# EAGLE library part EEPROM-I2C (library DSPR)
I2C EEPROMs 24C32 Series 32 kb I2C 2 Wire (4 k x 8 Bit) 3.3 V Serial EEPROM SMD - SOIC-8 24LC256 Series 256 kb I2C 2 Wire (32 k x 8 Bit) 2.5 V Serial EEPROM SMD - SOIC-8 Datasheet SparkFun Products SparkFun UDB5 - PIC UAV Development Board <https://www.sparkfun.com/products/11703> (GPS-11703)
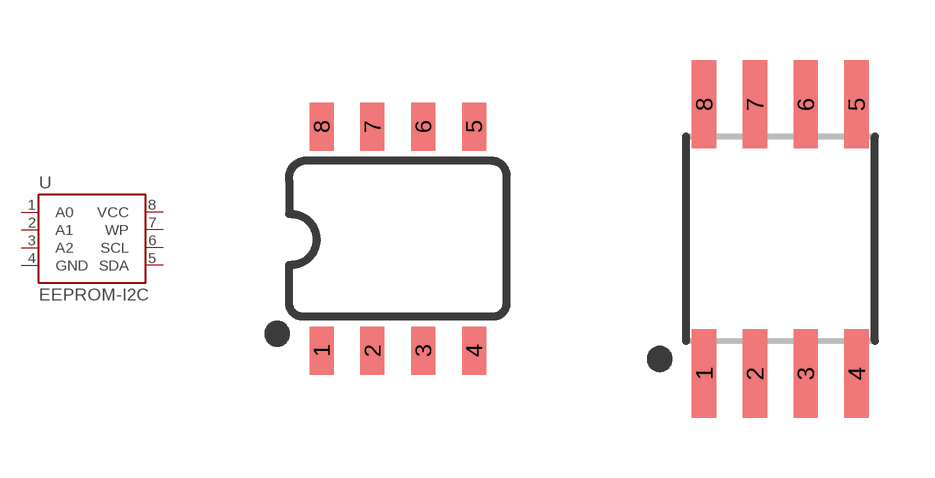
[diagram p3: symbol with the pads of SO08; footprints SO08, SO08-EIAJ]

Designator prefix U

## EEPROM-I2C256K (PROD_ID: IC-09714; VALUE: 24LC256)  [SO08]
1  A0
2  A1
3  A2
4  GND  pwr
5  SDA
6  SCL
7  WP
8  VCC  pwr

## EEPROM-I2CEIAJ (PROD_ID: NA-XXXXX; VALUE: I2C EEPROM)  [SO08-EIAJ]
Pads as for SO08

## EEPROM-I2C512K (PROD_ID: IC-14645)  [SO08]
Pads as for SO08

## EEPROM-I2C32K (PROD_ID: 24C32)  [SO08]
Pads as for SO08

## Footprint SO08 (pad centres in mm)
SOIC, 0.15 inch width
smd 0.6 x 1.2: 1 -1.905,-2.8; 2 -0.635,-2.8; 3 0.635,-2.8; 4 1.905,-2.8; 5 1.905,2.8; 6 0.635,2.8; 7 -0.635,2.8; 8 -1.905,2.8

## Footprint SO08-EIAJ (pad centres in mm)
Fits EIAJ packages (wide version of the SOIC-8).
smd 0.61 x 2.21: 1 -1.905,-3.378; 2 -0.635,-3.378; 3 0.635,-3.378; 4 1.905,-3.378; 5 1.905,3.353; 6 0.635,3.353; 7 -0.635,3.353; 8 -1.905,3.353